# EAGLE library part BME680 (library Eric Navarrete Custom Parts Feb 2019)
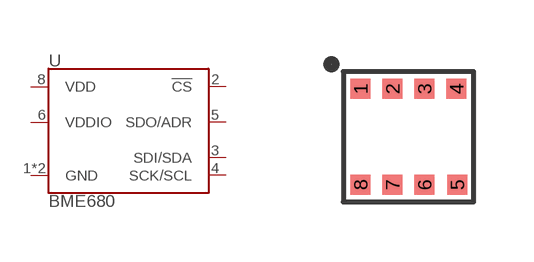
[diagram p36: symbol with the pads of LGA-8-3X3; footprint LGA-8-3X3]

Designator prefix U

## BME680  [LGA-8-3X3]
1  GND
2  !CS
3  SDI/SDA
4  SCK/SCL
5  SDO/ADR
6  VDDIO
7  GND
8  VDD

## Footprint LGA-8-3X3 (pad centres in mm)
smd 0.5 x 0.5: 1 -1.2,1.2; 2 -0.4,1.2; 3 0.4,1.2; 4 1.2,1.2; 5 1.22,-1.2; 6 0.4,-1.2; 7 -0.4,-1.2; 8 -1.2,-1.2